# EAGLE library part PCA9535A (library WCSMain)
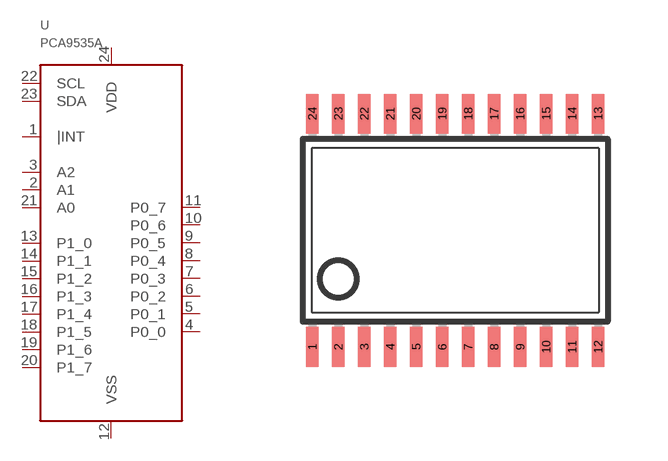
[diagram p2: symbol with the pads of TSSOP24; footprint TSSOP24]

Designator prefix -

## PCA9535A  [TSSOP24]
1  |INT
2  A1  in
3  A2  in
4  P0_0
5  P0_1
6  P0_2
7  P0_3
8  P0_4
9  P0_5
10  P0_6
11  P0_7
12  VSS  sup
13  P1_0
14  P1_1
15  P1_2
16  P1_3
17  P1_4
18  P1_5
19  P1_6
20  P1_7
21  A0  in
22  SCL
23  SDA
24  VDD  sup

## Footprint TSSOP24 (pad centres in mm)
Thin Shrink Small Outline Plastic 24 MAX3223-MAX3243.pdf
smd 0.305 x 0.991: 1 -3.575,-2.918; 2 -2.925,-2.918; 3 -2.275,-2.918; 4 -1.625,-2.918; 5 -0.975,-2.918; 6 -0.325,-2.918; 7 0.325,-2.918; 8 0.975,-2.918; 9 1.625,-2.918; 10 2.275,-2.918; 11 2.925,-2.918; 12 3.575,-2.918; 13 3.575,2.918; 14 2.925,2.918; 15 2.275,2.918; 16 1.625,2.918; 17 0.975,2.918; 18 0.325,2.918; 19 -0.325,2.918; 20 -0.975,2.918; 21 -1.625,2.918; 22 -2.275,2.918; 23 -2.925,2.918; 24 -3.575,2.918